# Altium footprint library WWJ_BIGCOINER_ES04.PcbLib: 41 footprints (part 2 of 3)
Each footprint in its own frame and in the unit in brackets; x right, y up, seen from the top. Pads: shape width x height; smd on the part's side, far side on the other; paste and mask are expansions set on the pad; w line width, h text height; cw(c..) or ccw(c..) is an arc to the next point about the centre after c.
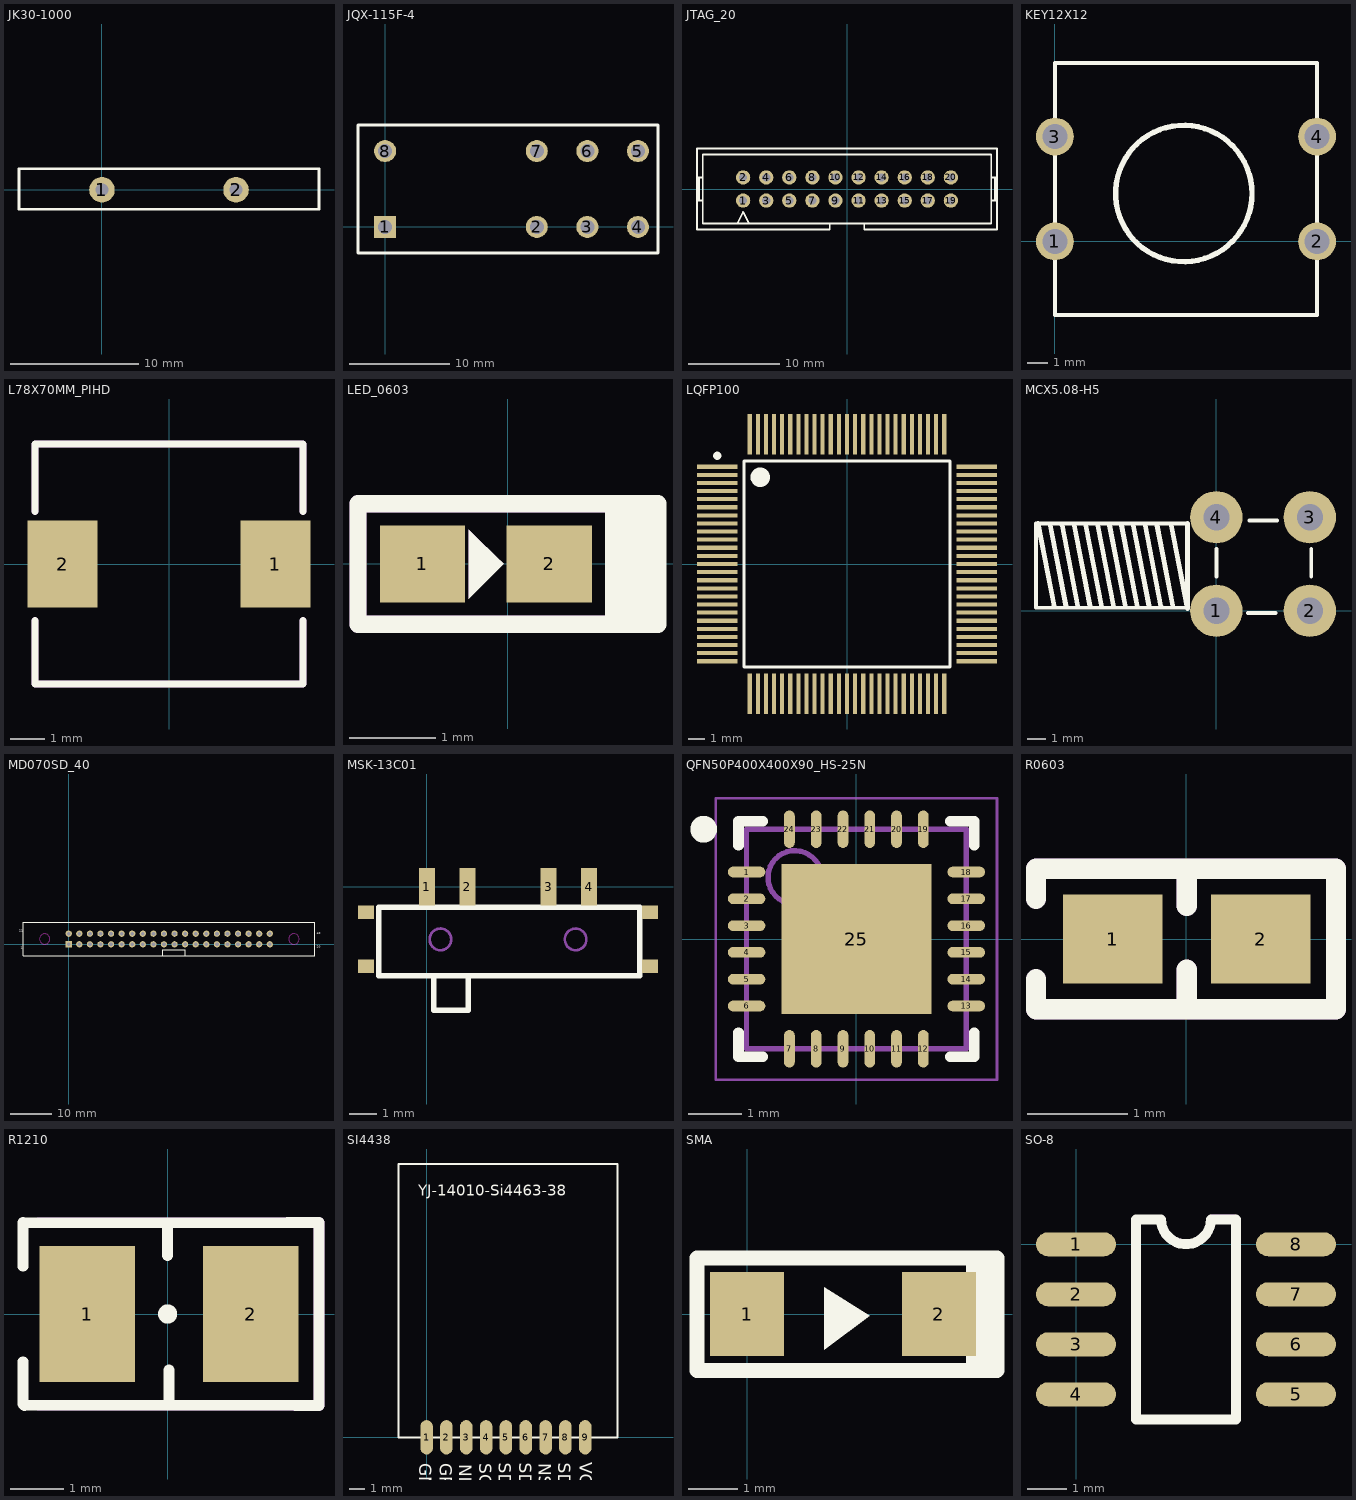
[diagram p1: the footprints below, top view; thin cyan lines are the x and y axes]

## JK30-1000 [mm]
pads (2):
  round 2 hole 1: 1(0,0) 2(10.5,0)
Top Overlay:
  lines w0.203: -6.5,-1.524 17,-1.524 17,1.651 -6.5,1.651 -6.5,-1.524

## JQX-115F-4 [mm]
height 1.4
pads (8):
  rect 2.2x2.2 hole 1.4: 1(0,0)
  round 2.2 hole 1.4: 2(15.12,0) 3(20.16,0) 4(25.2,0) 5(25.2,7.56) 6(20.16,7.56) 7(15.12,7.56) 8(0,7.56)
Top Overlay:
  lines w0.254: -2.7,-2.6 27.2,-2.6 27.2,10.16 -2.7,10.16 -2.7,-2.6

## JTAG_20 [mil]
height 55.12
pads (20):
  round 62 hole 35: 1(-450,-50) 2(-450,50) 3(-350,-50) 4(-350,50) 5(-250,-50) 6(-250,50) 7(-150,-50) 8(-150,50) 9(-50,-50) 10(-50,50) 11(50,-50) 12(50,50) 13(150,-50) 14(150,50) 15(250,-50) 16(250,50) 17(350,-50) 18(350,50) 19(450,-50) 20(450,50)
Top Overlay:
  lines w8: -650,-50 -625,-50 ; -650,50 -625,50 ; -641.67,-50 -641.67,50 ; -475,-150 -450,-100 -425,-150 ; -339.57,-175 -75,-175 -75,-150 ; -325,-175 -650,-175 -650,175 650,175 650,-175 325,-175 75,-175 75,-150 ; 625,-50 650,-50 ; 625,50 650,50 ; 641.67,-50 641.67,50 ; -75,-150 75,-150 ; -75,-150 -625,-150 -625,150 625,150 625,-150 75,-150

## KEY12X12 [mm]
height 1.4
pads (4):
  round 1.8 hole 1.2: 1(0,0) 2(12.5,0) 3(0,5) 4(12.5,5)
Top Overlay:
  circle w0.254: c6.145,2.286 r3.253
  lines w0.2: 12.446,-3.5 0,-3.5 0,5.08 0,8.5 12.446,8.5 ; 12.5,-3.5 12.5,8.5

## L78X70MM_PIHD [mil] "L_78X70MM_PIHD"
height 55.12
pads (2):
  rect 80x100 smd: 1(122.05,0) 2(-122.05,0)
Top Overlay:
  lines w8: -153.54,-65 -153.54,-137.8 153.54,-137.8 153.54,-65 ; -153.54,60 -153.54,137.8 153.54,137.8 153.54,60
Mechanical 1:
  lines w8: -153.54,-65 -153.54,-137.8 153.54,-137.8 153.54,-65 ; -153.54,60 -153.54,137.8 153.54,137.8 153.54,60
  text "2" at -114.05,0 h20
  text "1" at 130.05,0 h20
  text "L78X70MM_PIHD" at -140,-86 h40

## LED_0603 [mil] "LED_0603"
height 55.12
pads (2):
  rect 39x35 smd: 1(-39.12,0) 2(18.88,0)
Top Overlay:
  pour cut-out: -17.99,15.75 -2.25,0 -17.99,-15.75
  region: -18,15 -18,-16 -2,0
  lines w8: 45,-27.56 52.87,-27.56 ; 45,27.56 52.87,27.56 ; 48.94,-27.56 56.81,-27.56 56.81,27.56 ; 52.87,-27.56 52.87,27.56 ; 52.87,-27.56 60.75,-27.56 ; 52.87,27.56 56.81,27.56 ; 52.87,27.56 60.75,27.56 ; 56.81,27.56 64.68,27.56 64.68,-27.56 ; 60.75,-27.56 60.75,27.56 ; 60.75,-27.56 64.68,-27.56 ; 60.75,27.56 68.62,27.56 68.62,-27.56 64.68,-27.56 ; -68.62,-27.5 -68.62,27.5 48.38,27.5 48.38,-27.5 -68.62,-27.5
Mechanical 1:
  lines w8: -68.62,-27.5 48.38,-27.5 48.38,27.5 -68.62,27.5 -68.62,-27.5
  text "1" at -37.68,1.33 h20
  text "2" at 17.44,1.33 h20
  text "LED_0603" at -63,-23 h20
Mechanical 16:
  pour cut-out: -17.99,15.75 -17.99,-15.75 -2.25,0

## LQFP100 [mm] "TSQFP, 100-Leads, Body 16.0x16.0mm (max), Pitch 0.50mm, IPC Medium Density"
height 1.5
pads (100):
  rect 2.5x0.254 smd: 1(-8,6) 2(-8,5.5) 3(-8,5) 4(-8,4.5) 5(-8,4) 6(-8,3.5) 7(-8,3) 8(-8,2.5) 9(-8,2) 10(-8,1.5) 11(-8,1) 12(-8,0.5) 13(-8,0) 14(-8,-0.5) 15(-8,-1) 16(-8,-1.5) 17(-8,-2) 18(-8,-2.5) 19(-8,-3) 20(-8,-3.5) 21(-8,-4) 22(-8,-4.5) 23(-8,-5) 24(-8,-5.5) 25(-8,-6) 51(8,-6) 52(8,-5.5) 53(8,-5) 54(8,-4.5) 55(8,-4) 56(8,-3.5) 57(8,-3) 58(8,-2.5) 59(8,-2) 60(8,-1.5) 61(8,-1) 62(8,-0.5) 63(8,0) 64(8,0.5) 65(8,1) 66(8,1.5) 67(8,2) 68(8,2.5) 69(8,3) 70(8,3.5) 71(8,4) 72(8,4.5) 73(8,5) 74(8,5.5) 75(8,6)
  rect 0.254x2.5 smd: 26(-6,-8) 27(-5.5,-8) 28(-5,-8) 29(-4.5,-8) 30(-4,-8) 31(-3.5,-8) 32(-3,-8) 33(-2.5,-8) 34(-2,-8) 35(-1.5,-8) 36(-1,-8) 37(-0.5,-8) 38(0,-8) 39(0.5,-8) 40(1,-8) 41(1.5,-8) 42(2,-8) 43(2.5,-8) 44(3,-8) 45(3.5,-8) 46(4,-8) 47(4.5,-8) 48(5,-8) 49(5.5,-8) 50(6,-8) 76(6,8) 77(5.5,8) 78(5,8) 79(4.5,8) 80(4,8) 81(3.5,8) 82(3,8) 83(2.5,8) 84(2,8) 85(1.5,8) 86(1,8) 87(0.5,8) 88(0,8) 89(-0.5,8) 90(-1,8) 91(-1.5,8) 92(-2,8) 93(-2.5,8) 94(-3,8) 95(-3.5,8) 96(-4,8) 97(-4.5,8) 98(-5,8) 99(-5.5,8) 100(-6,8)
Top Overlay:
  circle w0.25: c-8,6.675 r0.125
  circle w0.6: c-5.35,5.35 r0.3
  lines w0.2: -6.35,-6.35 -6.35,6.35 6.35,6.35 6.35,-6.35 -6.35,-6.35

## MCX5.08-H5 [mm] "Connector; RF Coaxial, MCX, Thru-Hole; 5 Position; Right-Angle"
height 5.85
pads (4):
  round 2.8 hole 1.4: 1(0,0) 2(5,0) 3(5,5) 4(0,5)
Top Overlay:
  lines w0.2: -9.652,4.663 -9.652,0.163 -1.546,0.163 ; -9.543,4.663 -1.546,4.663 ; 0,1.822 0,3.302 ; 1.695,-0.127 3.175,-0.127 ; 1.778,4.826 3.258,4.826 ; 5.08,1.822 5.08,3.302
  lines w0.254: -9.543,4.663 -8.683,0.245 ; -8.89,4.572 -8.048,0.245 ; -8.255,4.572 -7.413,0.245 ; -7.603,4.575 -6.761,0.248 ; -6.985,4.572 -6.131,0.181 ; -6.35,4.572 -5.496,0.181 ; -5.715,4.572 -4.878,0.269 ; -5.08,4.572 -4.238,0.245 ; -4.445,4.572 -3.608,0.269 ; -3.81,4.572 -2.968,0.245 ; -3.175,4.572 -2.338,0.269 ; -2.413,4.572 -1.546,0.115 -1.546,4.663

## MD070SD_40 [mm] "Connector; Header; 20x2 Position"
height 1.4
pads (40):
  rect 1.5x1.5 hole 0.9: 1(0,0)
  round 1.5 hole 0.9: 2(2.54,0) 3(5.08,0) 4(7.62,0) 5(10.16,0) 6(12.7,0) 7(15.24,0) 8(17.78,0) 9(20.32,0) 10(22.86,0) 11(25.4,0) 12(27.94,0) 13(30.48,0) 14(33.02,0) 15(35.56,0) 16(38.1,0) 17(40.64,0) 18(43.18,0) 19(45.72,0) 20(48.26,0) 21(0,2.54) 22(2.54,2.54) 23(5.08,2.54) 24(7.62,2.54) 25(10.16,2.54) 26(12.7,2.54) 27(15.24,2.54) 28(17.78,2.54) 29(20.32,2.54) 30(22.86,2.54) 31(25.4,2.54) 32(27.94,2.54) 33(30.48,2.54) 34(33.02,2.54) 35(35.56,2.54) 36(38.1,2.54) 37(40.64,2.54) 38(43.18,2.54) 39(45.72,2.54) 40(48.26,2.54)
Top Overlay:
  lines w0.2: -10.88,5.27 -10.88,-2.73 59.055,-2.73 59.055,5.27 -10.795,5.27
  lines w0.254: 22.606,-2.73 22.606,-1.27 27.94,-1.27 27.94,-2.73
  text "20" at 59.563,-0.889 h0.51
  text "40" at 59.563,2.413 h0.51
  text "21" at -11.938,3.048 h0.51
  text "1" at -11.557,-1.016 h0.51
Keep-Out Layer:
  circle w0.254: c54.04,1.27 r1.25
  circle w0.254: c-5.78,1.27 r1.25

## MSK-13C01 [mm]
height 1.4
pads (8):
  rect 0.6x1.4 smd: 1(0,0) 2(1.5,0) 3(4.5,0) 4(6,0)
  rect 0.6x0.5 smd: ""(-2.25,-2.95) ""(-2.25,-0.95) ""(8.25,-2.95) ""(8.25,-0.95)
Top Overlay:
  lines w0.2: 0.254,-3.302 0.254,-4.572 1.524,-4.572 1.524,-3.302 ; -1.778,-3.302 -1.778,-0.762 7.874,-0.762 7.874,-3.302 -1.778,-3.302
Mechanical 1:
  circle w0.1: c5.5,-1.95 r0.4
  circle w0.1: c0.5,-1.95 r0.4

## QFN50P400X400X90_HS-25N [mm] "QFN, 24-Leads, Body 4.00x4.00mm, Pitch 0.50mm, Thermal Pad 2.80x2.80mm, IPC Medium Density"
height 0.9
pads (25):
  oval 0.7x0.2 smd: 1(-2.05,1.25) 2(-2.05,0.75) 3(-2.05,0.25) 4(-2.05,-0.25) 5(-2.05,-0.75) 6(-2.05,-1.25) 13(2.05,-1.25) 14(2.05,-0.75) 15(2.05,-0.25) 16(2.05,0.25) 17(2.05,0.75) 18(2.05,1.25)
  oval 0.2x0.7 smd: 7(-1.25,-2.05) 8(-0.75,-2.05) 9(-0.25,-2.05) 10(0.25,-2.05) 11(0.75,-2.05) 12(1.25,-2.05) 19(1.25,2.05) 20(0.75,2.05) 21(0.25,2.05) 22(-0.25,2.05) 23(-0.75,2.05) 24(-1.25,2.05)
  rect 2.8x2.8 smd: 25(0,0)
Top Overlay:
  circle w0.25: c-2.85,2.05 r0.125
  lines w0.2: -2.2,-1.75 -2.2,-2.2 -1.75,-2.2 ; -2.2,1.75 -2.2,2.2 -1.75,2.2 ; 1.75,-2.2 2.2,-2.2 2.2,-1.75 ; 1.75,2.2 2.2,2.2 2.2,1.75
Mechanical 13:
  circle w0.1: c-1.15,1.15 r0.5
  lines w0.1: -2.05,-2.05 2.05,-2.05 2.05,2.05 -2.05,2.05 -2.05,-2.05
Mechanical 15:
  lines w0.05: -2.625,-2.625 2.625,-2.625 2.625,2.625 -2.625,2.625 -2.625,-2.625
  lines w0.1: -0.5,0 0.5,0 ; 0,-0.5 0,0.5
3D body: height 0.9, standoff 0.02, extent -2.05,-2.05 2.05,2.05

## R0603 [mil] "R0603"
height 55.12
pads (2):
  rect 39x35 smd: 1(-28.72,0) 2(29.28,0)
Top Overlay:
  lines w8: -58.78,-15.75 -58.78,-27.56 58.78,-27.5 58.78,27.5 -58.78,27.56 -58.78,15.75 ; 0.28,-25 0.28,-12 ; 0.28,13 0.28,24
Mechanical 1:
  lines w8: -58.78,-15.75 -58.78,-27.56 58.78,-27.5 58.78,27.5 -58.78,27.56 -58.78,15.75 ; 0.28,-25 0.28,-12 ; 0.28,13 0.28,24
  text "2" at 37.28,0 h20
  text "1" at -20.72,0 h20
  text "R0603" at -15,-15 h10

## R1210 [mil] "R1210"
height 55.12
pads (2):
  rect 70x100 smd: 1(-58.98,0) 2(61.02,0)
Top Overlay:
  circle w10: c0.02,0 r2
  circle w10: c0.02,0 r2
  lines w8: -106,-66 -106,-35 ; -106,35 -106,67 94.51,66.93 ; -105,-67 94.51,-66.93 ; 0,43 0,66 ; 1,-66 1,-41 ; 88,67 111,67 111,-67 94,-67
Mechanical 1:
  lines w8: -94.47,-66.93 94.51,-66.93 ; -94.47,66.93 94.51,66.93 ; 90,67 111,67 111,-67 93,-67
  text "1" at -58.98,-10 h10
  text "2" at 61.02,-10 h10

## SI4438 [mm]
height 1.4
pads (9):
  oval 0.8x2.2 smd: 1(0,0) 2(1.27,0) 3(2.54,0) 4(3.81,0) 5(5.08,0) 6(6.35,0) 7(7.62,0) 8(8.89,0) 9(10.16,0)
Top Overlay:
  lines w0.127: -1.785,0 12.215,0 12.215,17.5 -1.785,17.5 -1.785,0
  text "YJ-14010-Si4463-38" at -0.525,15.46 h0.7
  text "GND" at -0.455,-1.66 h0.8
  text "GPIO1" at 0.855,-1.66 h0.8
  text "NIRQ" at 2.085,-1.71 h0.8
  text "SCLK" at 3.365,-1.66 h0.8
  text "SDO" at 4.625,-1.64 h0.8
  text "SDI" at 5.925,-1.64 h0.8
  text "NSEL" at 7.185,-1.66 h0.8
  text "SDN" at 8.425,-1.62 h0.8
  text "VCC" at 9.795,-1.59 h0.8

## SMA [mm]
height 1.4
pads (2):
  rect 1.5x1.7 smd: 1(0,0) 2(3.9,0)
Top Overlay:
  region: 1.57,0.543 1.57,-0.727 2.494,-0.035
  lines w0.254: 4.572,-1.143 4.572,1.143 ; 4.826,-1.143 4.826,1.143 ; 5.08,-1.143 5.08,1.143
  lines w0.305: -1.016,-1.143 -1.016,1.143 5.08,1.143 5.08,-1.143 -1.016,-1.143

## SO-8 [mil]
height 55.12
pads (8):
  oval 80x24 smd: 1(0,0) 2(0,-50) 3(0,-100) 4(0,-150) 5(220,-150) 6(220,-100) 7(220,-50) 8(220,0)
Top Overlay:
  lines w10: 60,-175 160,-175 160,25 135,25 cw(c110,25) 85,25 60,25 60,-175
Mechanical 1:
  lines w8: 60,22 60,-172 63,-175 159,-175 160,-174 160,24 158,26 136,26 ; 60,23 60,25 85,25 ; 85.28,24.81 ccw(c110.16,25.73) 135,24